# EAGLE library part FEATHER_M0 (library ingolia)
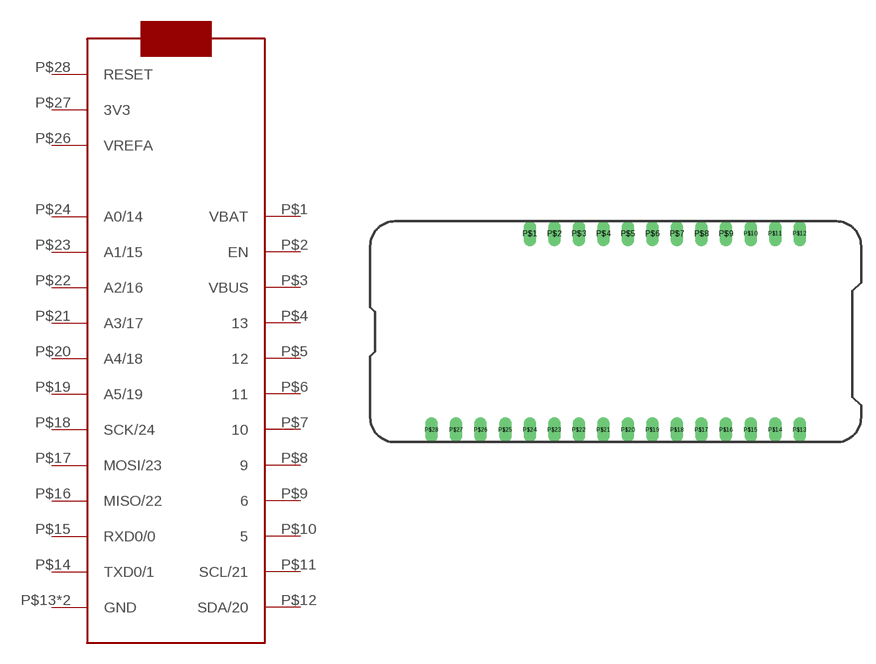
[diagram p8: symbol with the pads of FEATHER_M0; footprint FEATHER_M0]

Designator prefix IC

## FEATHER_M0  [FEATHER_M0]
P$1  VBAT
P$2  EN
P$3  VBUS
P$4  13
P$5  12
P$6  11
P$7  10
P$8  9
P$9  6
P$10  5
P$11  SCL/21
P$12  SDA/20
P$13  GND
P$14  TXD0/1
P$15  RXD0/0
P$16  MISO/22
P$17  MOSI/23
P$18  SCK/24
P$19  A5/19
P$20  A4/18
P$21  A3/17
P$22  A2/16
P$23  A1/15
P$24  A0/14
P$25  GND
P$26  VREFA
P$27  3V3
P$28  RESET

## Footprint FEATHER_M0 (pad centres in mm)
drill 0.8 long: P$1 -8.89,10.16; P$2 -6.35,10.16; P$3 -3.81,10.16; P$4 -1.27,10.16; P$5 1.27,10.16; P$6 3.81,10.16; P$7 6.35,10.16; P$8 8.89,10.16; P$9 11.43,10.16; P$10 13.97,10.16; P$11 16.51,10.16; P$12 19.05,10.16; P$13 19.05,-10.16; P$14 16.51,-10.16; P$15 13.97,-10.16; P$16 11.43,-10.16; P$17 8.89,-10.16; P$18 6.35,-10.16; P$19 3.81,-10.16; P$20 1.27,-10.16; P$21 -1.27,-10.16; P$22 -3.81,-10.16; P$23 -6.35,-10.16; P$24 -8.89,-10.16; P$25 -11.43,-10.16; P$26 -13.97,-10.16; P$27 -16.51,-10.16; P$28 -19.05,-10.16